# Altium schematic symbol library BUTTON.SchLib: 7 symbols
Pins are listed as number, name and electrical type; pins without a type are passive.

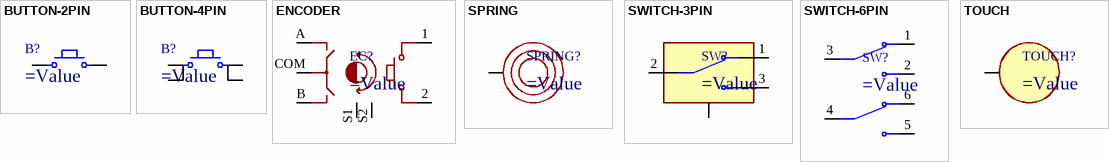
[diagram p0: symbols BUTTON-2PIN to TOUCH]

## BUTTON-2PIN
designator B?
=Description
pins: 1, 2

## BUTTON-4PIN
designator B?
=Description
pins: 1, 2, 3, 4

## ENCODER
designator EC?
=Description
pins: 1, 2, A, B, COM, S1 SHIELD, S2 SHIELD

## SPRING
designator SPRING?
=Description
pins: 1

## SWITCH-3PIN
designator SW?
=Description
pins: 0 NO1, 1 NC1, 2 COM1, 3 NO1

## SWITCH-6PIN
designator SW?
=Description
pins: 1 NC1, 2 NO1, 3 COM1, 4 COM2, 5 NO2, 6 NC2

## TOUCH
designator TOUCH?
=Description
pins: 1